# EAGLE library part CLM-112-02 (library samtec-clm-112-02)
Samtec 24 pin (12x2) 1.0 mm connector
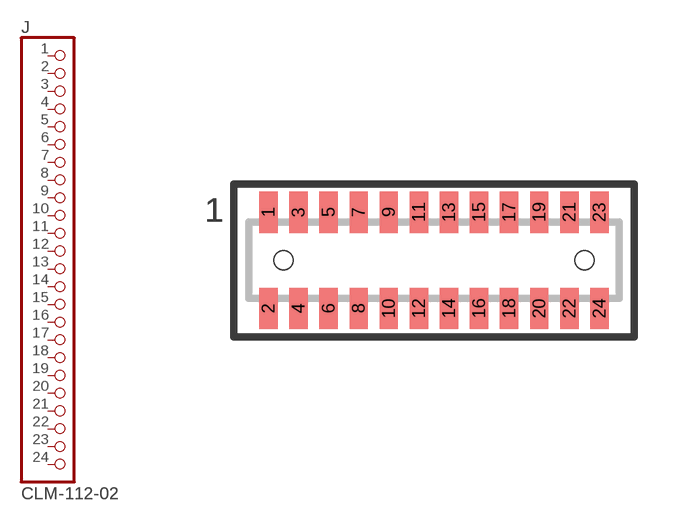
[diagram p0: symbol with the pads of CLM-112-02-XX-D-A; footprint CLM-112-02-XX-D-A]

Designator prefix J

## CLM-112-02  [CLM-112-02-XX-D-A]
1  1  pas
2  2  pas
3  3  pas
4  4  pas
5  5  pas
6  6  pas
7  7  pas
8  8  pas
9  9  pas
10  10  pas
11  11  pas
12  12  pas
13  13  pas
14  14  pas
15  15  pas
16  16  pas
17  17  pas
18  18  pas
19  19  pas
20  20  pas
21  21  pas
22  22  pas
23  23  pas
24  24  pas

## Footprint CLM-112-02-XX-D-A (pad centres in mm)
PCB Libraries Package
smd 0.61 x 1.37: 1 -5.5,1.6; 2 -5.5,-1.6; 3 -4.5,1.6; 4 -4.5,-1.6; 5 -3.5,1.6; 6 -3.5,-1.6; 7 -2.5,1.6; 8 -2.5,-1.6; 9 -1.5,1.6; 10 -1.5,-1.6; 11 -0.5,1.6; 12 -0.5,-1.6; 13 0.5,1.6; 14 0.5,-1.6; 15 1.5,1.6; 16 1.5,-1.6; 17 2.5,1.6; 18 2.5,-1.6; 19 3.5,1.6; 20 3.5,-1.6; 21 4.5,1.6; 22 4.5,-1.6; 23 5.5,1.6; 24 5.5,-1.6
hole 0.635 at -5,0
hole 0.635 at 5,0
hole 0.635 at -5,0
hole 0.635 at 5,0